# Altium integrated library PMIC - Gate Drivers.IntLib: 4 symbols
Pins are listed as number, name and electrical type; pins without a type are passive.

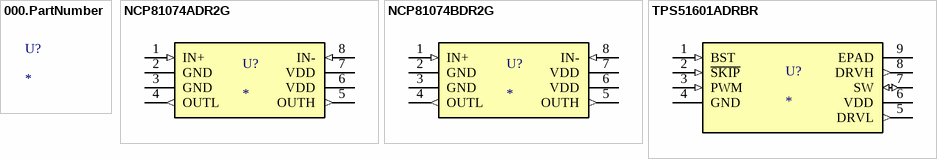
[diagram p0: symbols 000.PartNumber to TPS51601ADRBR]

## 000.PartNumber
designator U?
Digikey Description; Manufacturer: *; Series: *; Package: *; Driven Configuration: *; Channel Type: *; Gate Type: *; Voltage - Supply: *; Logic Voltage - VIL, VIH: *; Current - Peak Output (Source, Sink): *; Input Type: *; Rise / Fall Time (Typ): *; Operating Temperature: *; Mounting Type: *; Package / Case: *; Supplier Device Package: *; Number of Drivers: *; Base Product Number: *; Ozdisan Link: *; Digikey Link: *; Farnell TR Link: *; Mouser Link: *

## NCP81074ADR2G
designator U?
IC GATE DRVR LOW-SIDE 8SOIC; Manufacturer: ON Semiconductor; Channel Type: Single; Gate Type: N-Channel MOSFET; Voltage - Supply: 4.5V ~ 20V; Logic Voltage - VIL, VIH: 1.5V, 1.9V; Current - Peak Output (Source, Sink): 10A, 10A; Input Type: Inverting, Non-Inverting; Rise / Fall Time (Typ): 4ns, 4ns; Number of Drivers: 1; Base Product Number: NCP81074; Series: -; Package: Tape & Reel (TR); Driven Configuration: Low-Side; Operating Temperature: -40°C ~ 140°C (TJ); Mounting Type: Surface Mount; Package / Case: 8-SOIC (0.154", 3.90mm Width); Supplier Device Package: 8-SOIC; Ozdisan Link: -; Digikey Link: https://www.digikey.com/en/products/detail/on-semiconductor/NCP81074ADR2G/5816976?s=N4IgTCBcDaIHIGEAKAOAjABgOwBYCCAIgEpgDiIAugL5A; Farnell TR Link: https://tr.farnell.com/on-semiconductor/ncp81074adr2g/mosfet-driver-low-side-soic-8/dp/2844981?st=ncp81074adr2g; Mouser Link: https://www.mouser.com.tr/ProductDetail/ON-Semiconductor/NCP81074ADR2G?qs=%2Fha2pyFaduhl0FYDRii1FDOr8VN0cCAGdcXyj7sJNSoMVd%252Bt%2FQlkEw%3D%3D
footprint ONS_8-SOIC
pins: 1 IN+ (in), 2 GND, 3 GND, 4 OUTL (out), 5 OUTH (out), 6 VDD (power), 7 VDD (power), 8 IN- (in)

## NCP81074BDR2G
designator U?
IC GATE DRVR LOW-SIDE 8SOIC; Manufacturer: ON Semiconductor; Channel Type: Single; Gate Type: N-Channel MOSFET; Voltage - Supply: 4.5V ~ 20V; Current - Peak Output (Source, Sink): 10A, 10A; Input Type: Inverting, Non-Inverting; Rise / Fall Time (Typ): 4ns, 4ns; Number of Drivers: 1; Base Product Number: NCP81074; Series: -; Package: Tape & Reel (TR); Driven Configuration: Low-Side; Logic Voltage - VIL, VIH: -; Operating Temperature: -40°C ~ 140°C (TJ); Mounting Type: Surface Mount; Package / Case: 8-SOIC (0.154", 3.90mm Width); Supplier Device Package: 8-SOIC; Ozdisan Link: -; Digikey Link: https://www.digikey.com/en/products/detail/on-semiconductor/NCP81074BDR2G/5761746?s=N4IgTCBcDaIHIGEAKAOAjABgOwBYBCAIgEpgDiIAugL5A; Farnell TR Link: https://tr.farnell.com/on-semiconductor/ncp81074bdr2g/mosfet-driver-low-side-nsoic-8/dp/2507591?st=ncp81074bdr2g; Mouser Link: https://www.mouser.com.tr/ProductDetail/ON-Semiconductor/NCP81074BDR2G?qs=%2Fha2pyFaduhl0FYDRii1FC6E%2FNKJecfLPKEMjvreNxhzzS9qxc%252B%252BFQ%3D%3D
footprint ONS_8-SOIC
pins: 1 IN+ (in), 2 GND, 3 GND, 4 OUTL (out), 5 OUTH (out), 6 VDD (power), 7 VDD (power), 8 IN- (in)

## TPS51601ADRBR
designator U?
IC GATE DRVR HALF-BRIDGE 8SON; Manufacturer: Texas Instruments; Channel Type: Synchronous; Gate Type: N-Channel MOSFET; Voltage - Supply: 4.5V ~ 5.5V; Logic Voltage - VIL, VIH: 0.7V, 4V; Input Type: Non-Inverting; Rise / Fall Time (Typ): 15ns, 10ns; Number of Drivers: 2; Base Product Number: TPS51601; Series: -; Package: Tape & Reel (TR); Driven Configuration: Half-Bridge; Current - Peak Output (Source, Sink): -; Operating Temperature: -40°C ~ 105°C (TJ); Mounting Type: Surface Mount; Package / Case: 8-VDFN Exposed Pad; Supplier Device Package: 8-SON (3x3); Ozdisan Link: -; Digikey Link: https://www.digikey.com/en/products/detail/texas-instruments/TPS51601ADRBR/3451691; Farnell TR Link: -; Mouser Link: https://www.mouser.com.tr/ProductDetail/Texas-Instruments/TPS51601ADRBR?qs=Z9twEOuL%252B%2FJCk8kChS2yJQ%3D%3D
footprint TI_8-SON (3x3)
pins: 1 BST (in), 2 ~{SKIP} (in), 3 PWM (in), 4 GND (power), 5 DRVL (out), 6 VDD (power), 7 SW (io), 8 DRVH (out), 9 EPAD